# Altium schematic symbol library uz_d_encoder_lib.SchLib: 4 symbols
Pins are listed as number, name and electrical type; pins without a type are passive.

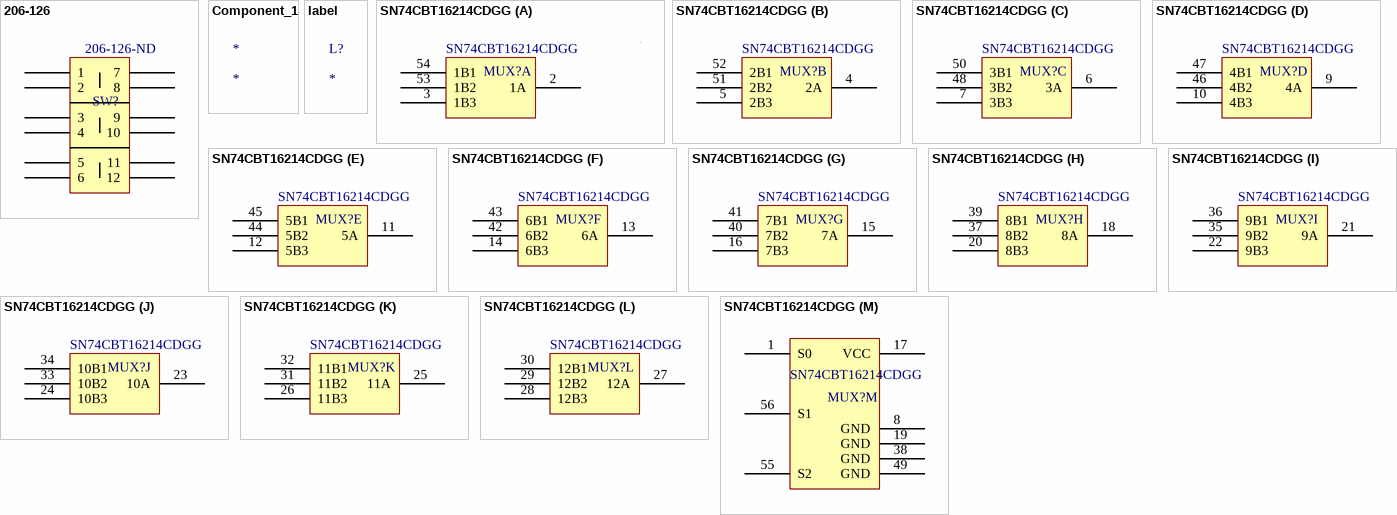
[diagram p0: symbols 206-126 to SN74CBT16214CDGG]

## 206-126
designator SW?  Supplier Part Number 1: 206-126-ND  (hidden comment: 206-126)
Switch DIP OFF ON SPDT 6 Raised Slide 0.05A 24VDC PC Pins 2.54mm Thru-Hole Tube; Manufacturer: CTS; Body Material: Plastic; Voltage Rating (DC): 24V; Number of Positions: 6; Current Rating: 50mA; Electrical Life: 10000Cycles; Actuator Type: Slide (Standard); Pitch: 0.1inch; Washable: No; Supplier 1: Digi-Key; Manufacturer Part Number: 206-126; RoHS: Yes; Category: DIP Switches; Pricing 1: 1005=1,10898 (USD); Mount: Through Hole; Contact Plating: Gold; Min Operating Temperature: -55°C; Max Operating Temperature: 85°C; Packaging: Rail/Tube; Termination: PC Pin; Package Quantity: 15; Throw Configuration: SPDT; Series: 206; Max Voltage Rating (DC): 24V; Length: 1.286inch; Terminal Pitch: 2.54mm; Radiation Hardening: No; RoHS Compliant: Yes; ComponentLink1URL: https://datasheet.ciiva.com/8677/206-208-8677008.pdf?src-supplier=Avnet; ComponentLink1Description: https://datasheet.ciiva.com/8677/206-208-8677008.pdf?src-supplier=Avnet; ComponentLink2URL: https://datasheet.ciiva.com/12451/206-208-11732-12451385.pdf?src-supplier=Mouser; ComponentLink2Description: https://datasheet.ciiva.com/12451/206-208-11732-12451385.pdf?src-supplier=Mouser
footprint 206-123
pins: 1, 2, 3, 4, 5, 6, 7, 8, 9, 10, 11, 12

## Component_1
designator *

## label
designator L?
footprint revisioninfo

## SN74CBT16214CDGG
designator MUX?
Multiplexer/Demultiplexer Bus Switch 1-Element CMOS 36-IN 56-Pin TSSOP Tube; Manufacturer: Texas Instruments; Supplier 1: Arrow Electronics; Manufacturer Part Number: SN74CBT16214CDGG; RoHS: Yes; Case/Package: TSSOP; RoHS Compliant: Yes; Supplier Part Number 1: SN74CBT16214CDGG
footprint TSSOP50P810X120-56N (TSSOP, 56-Leads, Body 14,00x6,10mm, Pitch 0,50mm, IPC Medium Density)
part A pins: 2 1A, 3 1B3, 53 1B2, 54 1B1
part B pins: 4 2A, 5 2B3, 51 2B2, 52 2B1
part C pins: 6 3A, 7 3B3, 48 3B2, 50 3B1
part D pins: 9 4A, 10 4B3, 46 4B2, 47 4B1
part E pins: 11 5A, 12 5B3, 44 5B2, 45 5B1
part F pins: 13 6A, 14 6B3, 42 6B2, 43 6B1
part G pins: 15 7A, 16 7B3, 40 7B2, 41 7B1
part H pins: 18 8A, 20 8B3, 37 8B2, 39 8B1
part I pins: 21 9A, 22 9B3, 35 9B2, 36 9B1
part J pins: 23 10A, 24 10B3, 33 10B2, 34 10B1
part K pins: 25 11A, 26 11B3, 31 11B2, 32 11B1
part L pins: 27 12A, 28 12B3, 29 12B2, 30 12B1
part M pins: 1 S0, 8 GND, 17 VCC, 19 GND, 38 GND, 49 GND, 55 S2, 56 S1